# EAGLE library part AD8476ARMZ (library AD8476)
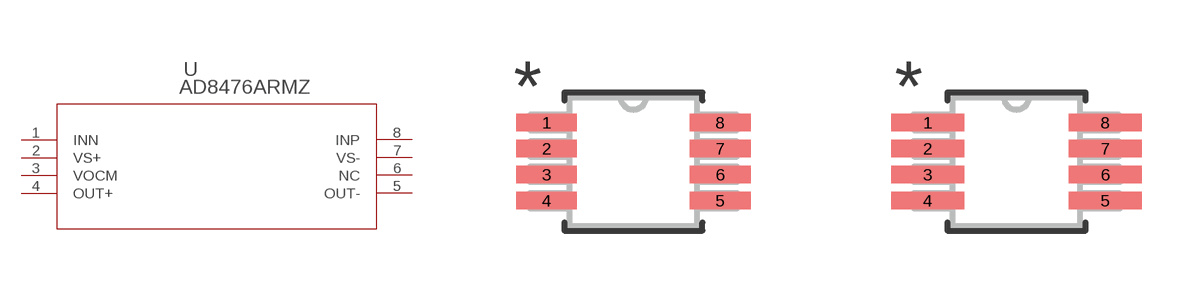
[diagram p1: symbol with the pads of RM_8_ADI; footprints RM_8_ADI, RM_8_ADI-M]

Designator prefix U

## AD8476ARMZ (COPYRIGHT: Copyright (C) 2023 Ultra Librarian. All rights reserved.; MANUFACTURER_PART_NUMBER: AD8476ARMZ; MFR_NAME: Analog Devices Inc)  [RM_8_ADI]
1  INN  in
2  VS+  pwr
3  VOCM  out
4  OUT+  out
5  OUT-  out
6  NC  nc
7  VS-  pwr
8  INP  in

## AD8476ARMZRM_8_ADI-M (COPYRIGHT: Copyright (C) 2023 Ultra Librarian. All rights reserved.; MANUFACTURER_PART_NUMBER: AD8476ARMZ; MFR_NAME: Analog Devices Inc)  [RM_8_ADI-M]
Pads as for RM_8_ADI

## AD8476ARMZRM_8_ADI-L (COPYRIGHT: Copyright (C) 2023 Ultra Librarian. All rights reserved.; MANUFACTURER_PART_NUMBER: AD8476ARMZ; MFR_NAME: Analog Devices Inc)  [RM_8_ADI-L]
Pads as for RM_8_ADI

## Footprint RM_8_ADI (pad centres in mm)
smd 1.524 x 0.432: 1 -2.172,0.975; 2 -2.172,0.325; 3 -2.172,-0.325; 4 -2.172,-0.975; 5 2.172,-0.975; 6 2.172,-0.325; 7 2.172,0.325; 8 2.172,0.975

## Footprint RM_8_ADI-M (pad centres in mm)
smd 1.829 x 0.432: 1 -2.223,0.975; 2 -2.223,0.325; 3 -2.223,-0.325; 4 -2.223,-0.975; 5 2.223,-0.975; 6 2.223,-0.325; 7 2.223,0.325; 8 2.223,0.975

## Footprint RM_8_ADI-L (pad centres in mm)
smd 1.219 x 0.381: 1 -2.121,0.975; 2 -2.121,0.325; 3 -2.121,-0.325; 4 -2.121,-0.975; 5 2.121,-0.975; 6 2.121,-0.325; 7 2.121,0.325; 8 2.121,0.975